# EAGLE library part RESISTOR_ARRAY_8 (library ERIC)
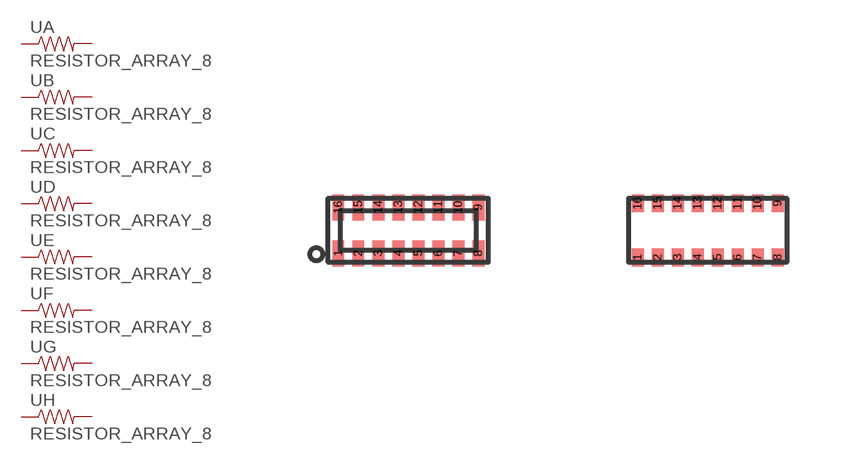
[diagram p15: symbol with the pads of RESISTOR_ARRAY_YAEGO_YC248; footprints RESISTOR_ARRAY_YAEGO_YC248, RES_ARRAY_8_CTS_741X163]

Designator prefix -; gates A=RESISTOR B=RESISTOR C=RESISTOR D=RESISTOR E=RESISTOR F=RESISTOR G=RESISTOR H=RESISTOR

## RESISTOR_ARRAY_8  [RESISTOR_ARRAY_YAEGO_YC248]
1  A:1  pas
2  B:1  pas
3  C:1  pas
4  D:1  pas
5  E:1  pas
6  F:1  pas
7  G:1  pas
8  H:1  pas
9  H:2  pas
10  G:2  pas
11  F:2  pas
12  E:2  pas
13  D:2  pas
14  C:2  pas
15  B:2  pas
16  A:2  pas

## RESISTOR_ARRAY_8741X163  [RES_ARRAY_8_CTS_741X163]
Pads as for RESISTOR_ARRAY_YAEGO_YC248

## RESISTOR_ARRAY_8CTS_742  [RESISTOR_ARRAY_CTS_742_8]
Pads as for RESISTOR_ARRAY_YAEGO_YC248

## Footprint RESISTOR_ARRAY_YAEGO_YC248 (pad centres in mm)
smd 0.3 x 0.65: 1 -1.75,-0.575; 2 -1.25,-0.575; 3 -0.75,-0.575; 4 -0.25,-0.575; 5 0.25,-0.575; 6 0.75,-0.575; 7 1.25,-0.575; 8 1.75,-0.575; 9 1.75,0.575; 10 1.25,0.575; 11 0.75,0.575; 12 0.25,0.575; 13 -0.25,0.575; 14 -0.75,0.575; 15 -1.25,0.575; 16 -1.75,0.575

## Footprint RES_ARRAY_8_CTS_741X163 (pad centres in mm)
CTS 741X163 8 resistor array http://media.digikey.com/pdf/Data%20Sheets/CTS%20Corporation%20PDFs/Chip%20Resistor%20Arrays_74x_Series.pdf
smd 0.3 x 0.45: 1 -1.75,-0.675; 2 -1.25,-0.675; 3 -0.75,-0.675; 4 -0.25,-0.675; 5 0.25,-0.675; 6 0.75,-0.675; 7 1.25,-0.675; 8 1.75,-0.675; 9 1.75,0.675; 10 1.25,0.675; 11 0.75,0.675; 12 0.25,0.675; 13 -0.25,0.675; 14 -0.75,0.675; 15 -1.25,0.675; 16 -1.75,0.675

## Footprint RESISTOR_ARRAY_CTS_742_8 (pad centres in mm)
CTS 8 resistor 0603 Based off of digikey part 742C163101JPCT-ND
smd 0.45 x 0.9: 1 -2.8,-0.85; 2 -2,-0.85; 3 -1.2,-0.85; 4 -0.4,-0.85; 5 0.4,-0.85; 6 1.2,-0.85; 7 2,-0.85; 8 2.8,-0.85; 9 2.8,0.85; 10 2,0.85; 11 1.2,0.85; 12 0.4,0.85; 13 -0.4,0.85; 14 -1.2,0.85; 15 -2,0.85; 16 -2.8,0.85